# EAGLE library part MSP430 (library IC)
MIXED SIGNAL MICROCONTROLLER
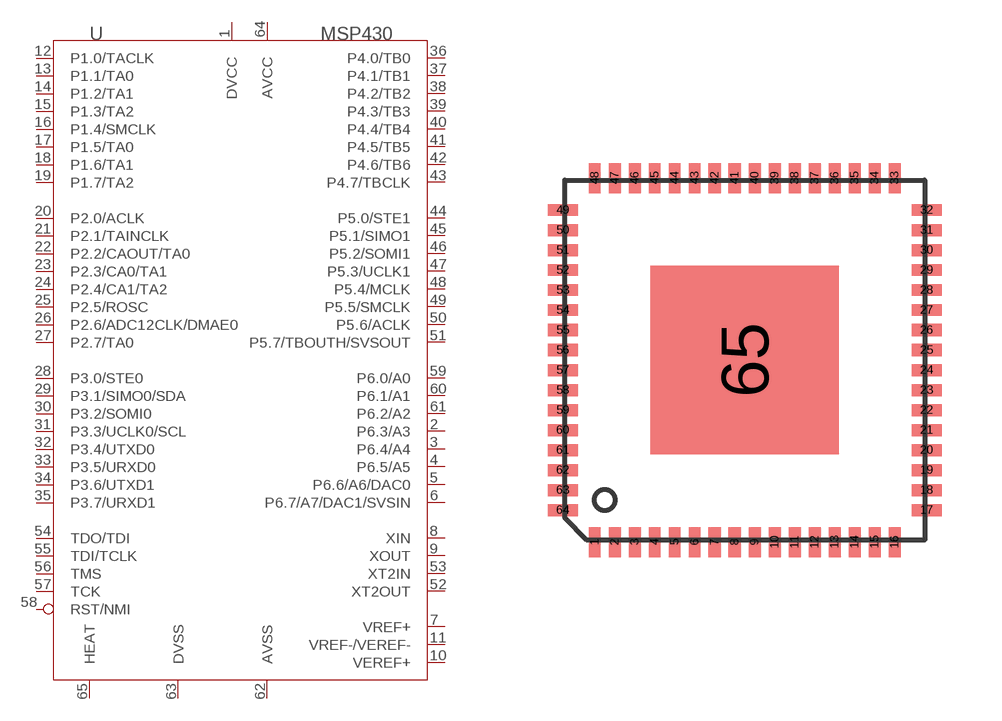
[diagram p179: symbol with the pads of QFN64; footprint QFN64]

Designator prefix U

## MSP430  [QFN64]
1  DVCC  sup
2  P6.3/A3
3  P6.4/A4
4  P6.5/A5
5  P6.6/A6/DAC0
6  P6.7/A7/DAC1/SVSIN
7  VREF+  out
8  XIN  in
9  XOUT  out
10  VEREF+  in
11  VREF-/VEREF-  in
12  P1.0/TACLK
13  P1.1/TA0
14  P1.2/TA1
15  P1.3/TA2
16  P1.4/SMCLK
17  P1.5/TA0
18  P1.6/TA1
19  P1.7/TA2
20  P2.0/ACLK
21  P2.1/TAINCLK
22  P2.2/CAOUT/TA0
23  P2.3/CA0/TA1
24  P2.4/CA1/TA2
25  P2.5/ROSC
26  P2.6/ADC12CLK/DMAE0
27  P2.7/TA0
28  P3.0/STE0
29  P3.1/SIMO0/SDA
30  P3.2/SOMI0
31  P3.3/UCLK0/SCL
32  P3.4/UTXD0
33  P3.5/URXD0
34  P3.6/UTXD1
35  P3.7/URXD1
36  P4.0/TB0
37  P4.1/TB1
38  P4.2/TB2
39  P4.3/TB3
40  P4.4/TB4
41  P4.5/TB5
42  P4.6/TB6
43  P4.7/TBCLK
44  P5.0/STE1
45  P5.1/SIMO1
46  P5.2/SOMI1
47  P5.3/UCLK1
48  P5.4/MCLK
49  P5.5/SMCLK
50  P5.6/ACLK
51  P5.7/TBOUTH/SVSOUT
52  XT2OUT  out
53  XT2IN  in
54  TDO/TDI
55  TDI/TCLK  in
56  TMS  in
57  TCK  in
58  RST/NMI  in
59  P6.0/A0
60  P6.1/A1
61  P6.2/A2
62  AVSS  sup
63  DVSS  sup
64  AVCC  sup
65  HEAT

## Footprint QFN64 (pad centres in mm)
smd 0.3 x 0.75: 1 -3.75,-4.55; 2 -3.25,-4.55; 3 -2.75,-4.55; 4 -2.25,-4.55; 5 -1.75,-4.55; 6 -1.25,-4.55; 7 -0.75,-4.55; 8 -0.25,-4.55; 9 0.25,-4.55; 10 0.75,-4.55; 11 1.25,-4.55; 12 1.75,-4.55; 13 2.25,-4.55; 14 2.75,-4.55; 15 3.25,-4.55; 16 3.75,-4.55; 33 3.75,4.55; 34 3.25,4.55; 35 2.75,4.55; 36 2.25,4.55; 37 1.75,4.55; 38 1.25,4.55; 39 0.75,4.55; 40 0.25,4.55; 41 -0.25,4.55; 42 -0.75,4.55; 43 -1.25,4.55; 44 -1.75,4.55; 45 -2.25,4.55; 46 -2.75,4.55; 47 -3.25,4.55; 48 -3.75,4.55
smd 0.75 x 0.3: 17 4.55,-3.75; 18 4.55,-3.25; 19 4.55,-2.75; 20 4.55,-2.25; 21 4.55,-1.75; 22 4.55,-1.25; 23 4.55,-0.75; 24 4.55,-0.25; 25 4.55,0.25; 26 4.55,0.75; 27 4.55,1.25; 28 4.55,1.75; 29 4.55,2.25; 30 4.55,2.75; 31 4.55,3.25; 32 4.55,3.75; 49 -4.55,3.75; 50 -4.55,3.25; 51 -4.55,2.75; 52 -4.55,2.25; 53 -4.55,1.75; 54 -4.55,1.25; 55 -4.55,0.75; 56 -4.55,0.25; 57 -4.55,-0.25; 58 -4.55,-0.75; 59 -4.55,-1.25; 60 -4.55,-1.75; 61 -4.55,-2.25; 62 -4.55,-2.75; 63 -4.55,-3.25; 64 -4.55,-3.75
smd 4.7 x 4.7: 65 0,0